# Altium schematic symbol library opa2376.SchLib: 1 symbol
Pins are listed as number, name and electrical type; pins without a type are passive.

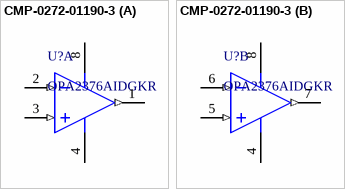
[diagram p0: symbol CMP-0272-01190-3]

## CMP-0272-01190-3
designator U?, comment OPA2376AIDGKR
Precision, Low Noise, Low Quiescent Current Operational Amplifier, 2 to 5.5 V, -40 to 125 degC, 8-pin SOP (DGK8), Green (RoHS & no Sb/Br); Manufacturer: Texas Instruments; CMRR(Min)(dB): 76; Iq per channel(Max)(mA): 0.95; Vn at 1kHz(Typ)(nV/rtHz): 7.5; Sub Family: Low Input Bias Current Amp (<=10pA), Low Noise Amp (<=10nV/rtHz), Low Offset Voltage Amplifier (<=500uV), Low Supply Voltage Amplifier (<=2.7V), Precision Amplifier; Offset Drift(Typ)(uV/C): 0.32; Total Supply Voltage(Min)(+5V is 5, +/-5V is 10): 2; Vio (25C)(Max)(mV): 0.025; IIB(Max)(pA): 10; Total Supply Voltage(Max)(+5V is 5, +/-5V is 10): 5.5; PackageReference: DGK0008A; Eco-Plan: Green (RoHS & no Sb/Br); DatasheetVersion: SBOS406F; Code_JEDEC: MO-187; PackageVersion: 4073329/E, 05/2006; ComponentLink3Description: Package Specification; ComponentLink2URL: http://www.ti.com/general/docs/lit/getliterature.tsp?genericPartNumber=OPA2376&fileType=pdf; ComponentLink1Description: Manufacturer URL; Mounting Technology: Surface Mount; Number of Channels: 2; ComponentLink1URL: http://www.ti.com/; PartNumber: OPA2376AIDGKR; Slew Rate(Typ)(V/us): 2; PackageDescription: 8-Pin Thin Small Outline, Body 3 x 3 mm, Pitch 0.65 mm; ComponentLink2Description: Datasheet; ComponentLink3URL: http://www.ti.com/litv/pdf/mpds028d
footprint DGK0008A_M (TSOP, 8-Leads, Body 3.1x3.1mm, Pitch 0.65mm, IPC Low Density)
footprint DGK0008A_L (TSOP, 8-Leads, Body 3.1x3.1mm, Pitch 0.65mm, IPC High Density)
footprint DGK0008A_N (TSOP, 8-Leads, Body 3.1x3.1mm, Pitch 0.65mm, IPC Medium Density)
pins on every part: 4 V- (power), 8 V+ (power)
part A pins: 1 OUT A (out), 2 IN A- (in), 3 IN A+ (in)
part B pins: 5 IN B+ (in), 6 IN B- (in), 7 OUT B (out)